# Altium schematic symbol library LM34_2.Schlib: 1 symbol
Pins are listed as number, name and electrical type; pins without a type are passive.

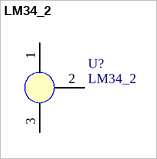
[diagram p0: symbol LM34_2]

## LM34_2
designator U?
Temperature sensor; Part Field 1: IC, Temperature; Part Field 6: 219-867; Part Field 2: Precision; Part Field 3: TO-46; Part Field 4: National; Part Field 5: LM34CAH
footprint TO-46
pins: 1 VCC, 2 Vout, 3 GND